# EAGLE library part MCP4018 (library misc)
Digital Potentiometer 50k Ohm Circuit 128 Taps I²C Interface SC-70-6
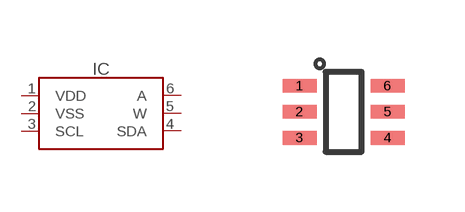
[diagram p45: symbol with the pads of SC70-6; footprint SC70-6]

Designator prefix IC

## MCP4018T-503-SC70-6 (DIGIKEY#: MCP4018T-503E/LTCT-ND; LCSC#: C145561; MANF: Microchip Technology; MANF#: MCP4018T-503E/LT)  [SC70-6]
1  VDD
2  VSS
3  SCL
4  SDA
5  W
6  A

## Footprint SC70-6 (pad centres in mm)
https://datasheet.lcsc.com/szlcsc/1810010811_Texas-Instruments-INA213AIDCKR_C129346.pdf 3D model <https://grabcad.com/library/sc70-packages-1>
smd 0.85 x 0.35: 1 -1.1,0.65; 2 -1.1,0; 3 -1.1,-0.65; 4 1.1,-0.65; 5 1.1,0; 6 1.1,0.65